# EAGLE library part TL7726 (library ASL)
Hex Clamping IC
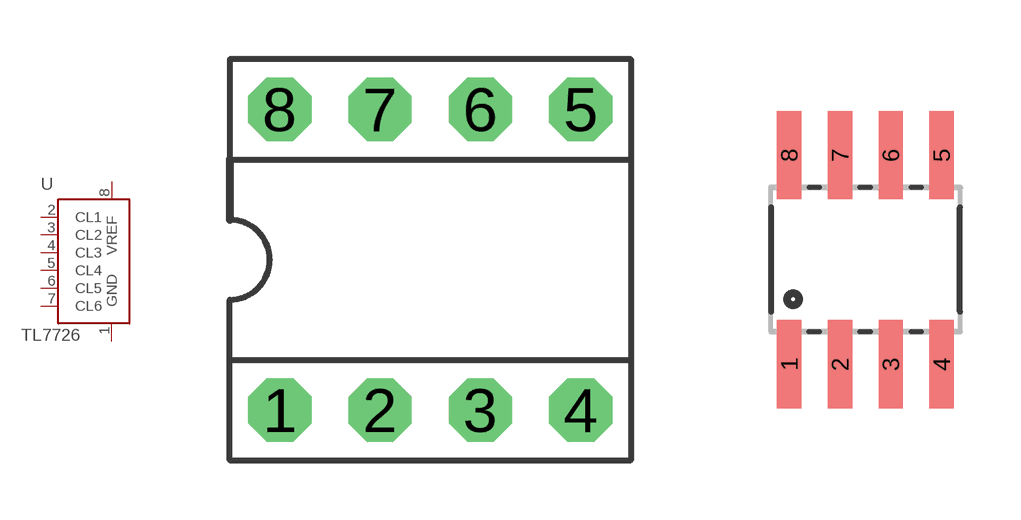
[diagram p3: symbol with the pads of DIL08; footprints DIL08, SO08]

Designator prefix U

## TL7726PDIP  [DIL08]
1  GND  pwr
2  CL1  pas
3  CL2  pas
4  CL3  pas
5  CL4  pas
6  CL5  pas
7  CL6  pas
8  VREF  pwr

## TL7726SOIC  [SO08]
Pads as for DIL08

## Footprint DIL08 (pad centres in mm)
Dual In Line
drill 0.813 pad 1.6 octagon: 1 -3.81,-3.81; 2 -1.27,-3.81; 3 1.27,-3.81; 4 3.81,-3.81; 5 3.81,3.81; 6 1.27,3.81; 7 -1.27,3.81; 8 -3.81,3.81

## Footprint SO08 (pad centres in mm)
Small Outline Package Fits JEDEC packages (narrow SOIC-8)
smd 0.61 x 2.21: 1 -1.905,-2.616; 2 -0.635,-2.616; 3 0.635,-2.616; 4 1.905,-2.616; 5 1.905,2.616; 6 0.635,2.616; 7 -0.635,2.616; 8 -1.905,2.616